# Altium schematic symbol library Inductor.Schlib: 1 symbol
Pins are listed as number, name and electrical type; pins without a type are passive.

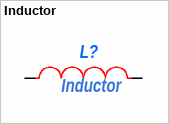
[diagram p0: symbol Inductor]

## Inductor
designator L?
Индуктивность постоянная без сердечника; ManufacturerPartNumber: EC24 - 100K; ComponentLink1Description: *; ComponentLink1URL: *; ComponentLink2Description: *; ComponentLink2URL: *; Manufacturer: *; Power\Voltage: *; Rem: *; TKE: *; Tolerance: *; TU/GOST: *; Корпус: *; Примечание: *; Value: *; Author: *; Type: *
footprint EC24-101K_TH
footprint B82464G4223M
footprint 0603
footprint Inductor_D=9
footprint LQH3NPN4R7MJRL
footprint B82477G4224M
footprint SLF7_TDK
pins: 1, 2